# Altium footprint library PCB - LEADED - SOT-23 - MCCSEMI SOT-23-3.PCBLIB: 1 footprints
Each footprint in its own frame and in the unit in brackets; x right, y up, seen from the top. Pads: shape width x height; smd on the part's side, far side on the other; paste and mask are expansions set on the pad; w line width, h text height; cw(c..) or ccw(c..) is an arc to the next point about the centre after c.
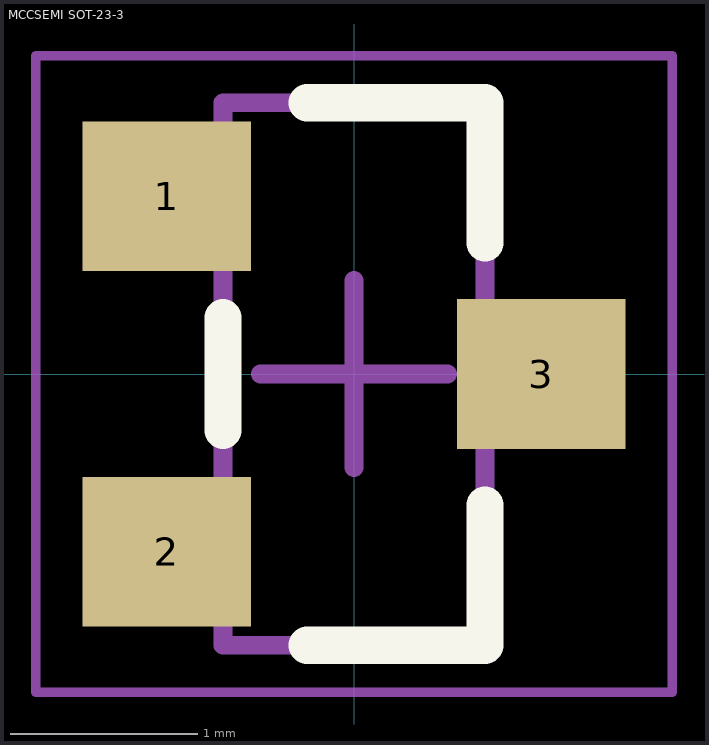
[diagram p0: the footprint, top view; thin cyan lines are the x and y axes]

## MCCSEMI SOT-23-3 [mm] "SOT23, 3-Leads, Body 2.92x2.37mm, Pitch 0.95mm, IPC Medium Density"
height 1.12
pads (3):
  rect 0.9x0.8 smd: 1(-1,0.95) 2(-1,-0.95) 3(1,0)
Top Overlay:
  lines w0.2: -0.7,-0.3 -0.7,0.3 ; -0.25,-1.45 0.7,-1.45 0.7,-0.7 ; -0.25,1.45 0.7,1.45 0.7,0.7
Mechanical 13:
  lines w0.1: -0.7,-1.45 -0.7,1.45 0.7,1.45 0.7,-1.45 -0.7,-1.45
Mechanical 15:
  lines w0.05: -1.7,-1.7 -1.7,1.7 1.7,1.7 1.7,-1.7 -1.7,-1.7
Mechanical 2 (Mech9):
  lines w0.1: -0.5,0 0.5,0 ; 0,-0.5 0,0.5
3D body "sot-23-3-nxp.STEP": height 1.5, standoff 0, extent -1.16,-1.45 1.161,1.45